# EAGLE library part PTH08T250 (library ic)
PTH08T250: DC/DC converter (Texas Instruments) 4.5-14V in, 0.69-5.5V out Remote sense, efficiency 96%, synchronisable
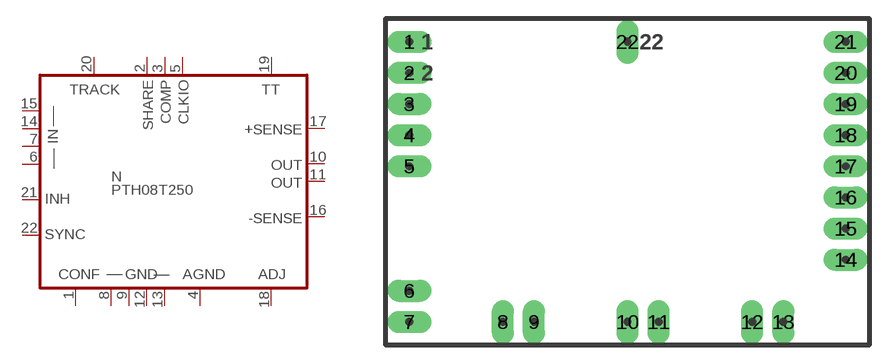
[diagram p139: symbol with the pads of PTH08T250; footprint PTH08T250]

Designator prefix N

## PTH08T250  [PTH08T250]
1  CONF
2  SHARE
3  COMP
4  AGND
5  CLKIO
6  IN  in
7  IN  in
8  GND
9  GND
10  OUT  out
11  OUT  out
12  GND
13  GND
14  IN  in
15  IN  in
16  -SENSE  in
17  +SENSE  in
18  ADJ
19  TT  in
20  TRACK
21  INH  in
22  SYNC  in

## Footprint PTH08T250 (pad centres in mm)
drill 1.194 pad 1.778 long: 1 -17.78,11.43; 2 -17.78,8.89; 3 -17.78,6.35; 4 -17.78,3.81; 5 -17.78,1.27; 6 -17.78,-8.89; 7 -17.78,-11.43; 8 -10.16,-11.43; 9 -7.62,-11.43; 10 0,-11.43; 11 2.54,-11.43; 12 10.16,-11.43; 13 12.7,-11.43; 14 17.78,-6.35; 15 17.78,-3.81; 16 17.78,-1.27; 17 17.78,1.27; 18 17.78,3.81; 19 17.78,6.35; 20 17.78,8.89; 21 17.78,11.43; 22 0,11.43